# Altium schematic symbol library vga.SchLib: 197 symbols (part 3 of 3)

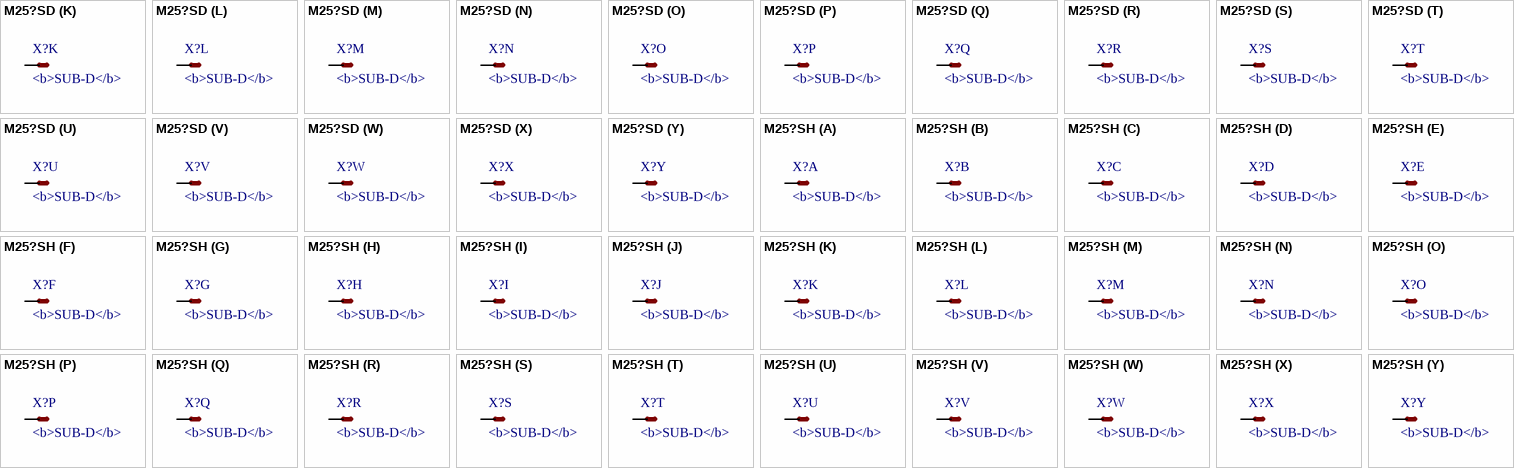
[diagram p46: symbols M25?SD to M25?SH]

## M25?SD
designator X?, comment <b>SUB-D</b>
OC_FARNELL: unknown; OC_NEWARK: unknown
footprint M25D
part A pins: 1 M
part B pins: 2 M
part C pins: 3 M
part D pins: 4 M
part E pins: 5 M
part F pins: 6 M
part G pins: 7 M
part H pins: 8 M
part I pins: 9 M
part J pins: 10 M
part K pins: 11 M
part L pins: 12 M
part M pins: 13 M
part N pins: 14 M
part O pins: 15 M
part P pins: 16 M
part Q pins: 17 M
part R pins: 18 M
part S pins: 19 M
part T pins: 20 M
part U pins: 21 M
part V pins: 22 M
part W pins: 23 M
part X pins: 24 M
part Y pins: 25 M

## M25?SH
designator X?, comment <b>SUB-D</b>
OC_FARNELL: unknown; OC_NEWARK: unknown
footprint M25H
part A pins: 1 M
part B pins: 2 M
part C pins: 3 M
part D pins: 4 M
part E pins: 5 M
part F pins: 6 M
part G pins: 7 M
part H pins: 8 M
part I pins: 9 M
part J pins: 10 M
part K pins: 11 M
part L pins: 12 M
part M pins: 13 M
part N pins: 14 M
part O pins: 15 M
part P pins: 16 M
part Q pins: 17 M
part R pins: 18 M
part S pins: 19 M
part T pins: 20 M
part U pins: 21 M
part V pins: 22 M
part W pins: 23 M
part X pins: 24 M
part Y pins: 25 M

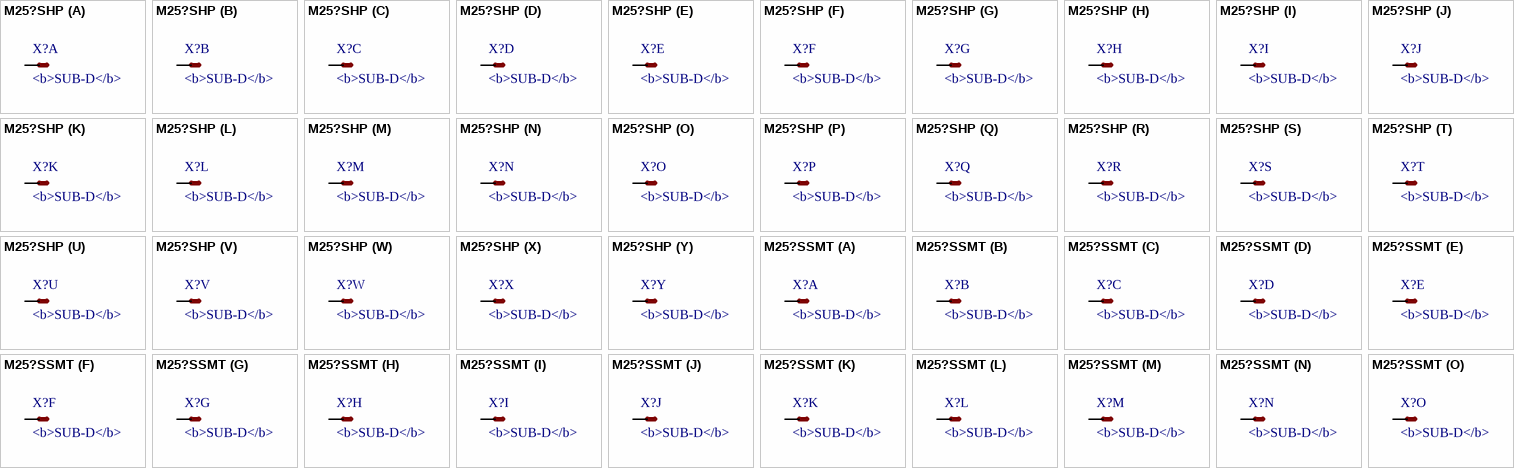
[diagram p47: symbols M25?SHP to M25?SSMT]

## M25?SHP
designator X?, comment <b>SUB-D</b>
OC_FARNELL: unknown; OC_NEWARK: unknown
footprint M25HP
part A pins: 1 M
part B pins: 2 M
part C pins: 3 M
part D pins: 4 M
part E pins: 5 M
part F pins: 6 M
part G pins: 7 M
part H pins: 8 M
part I pins: 9 M
part J pins: 10 M
part K pins: 11 M
part L pins: 12 M
part M pins: 13 M
part N pins: 14 M
part O pins: 15 M
part P pins: 16 M
part Q pins: 17 M
part R pins: 18 M
part S pins: 19 M
part T pins: 20 M
part U pins: 21 M
part V pins: 22 M
part W pins: 23 M
part X pins: 24 M
part Y pins: 25 M

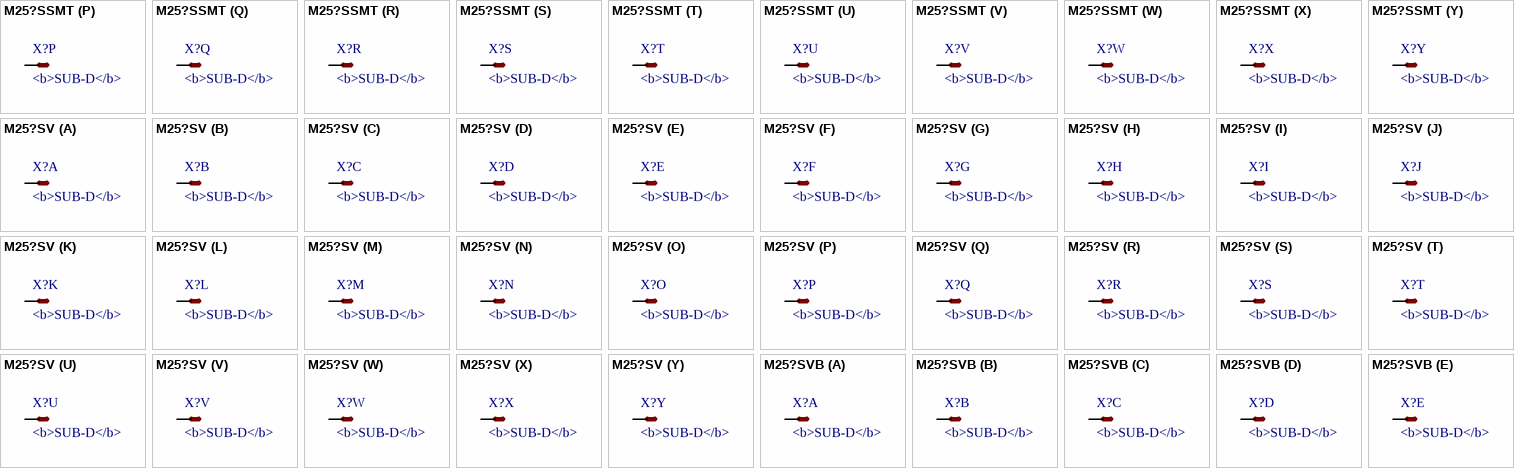
[diagram p48: symbols M25?SSMT to M25?SVB]

## M25?SSMT
designator X?, comment <b>SUB-D</b>
footprint M25SMT
part A pins: 1 M
part B pins: 2 M
part C pins: 3 M
part D pins: 4 M
part E pins: 5 M
part F pins: 6 M
part G pins: 7 M
part H pins: 8 M
part I pins: 9 M
part J pins: 10 M
part K pins: 11 M
part L pins: 12 M
part M pins: 13 M
part N pins: 14 M
part O pins: 15 M
part P pins: 16 M
part Q pins: 17 M
part R pins: 18 M
part S pins: 19 M
part T pins: 20 M
part U pins: 21 M
part V pins: 22 M
part W pins: 23 M
part X pins: 24 M
part Y pins: 25 M

## M25?SV
designator X?, comment <b>SUB-D</b>
OC_FARNELL: unknown; OC_NEWARK: unknown
footprint M25V
part A pins: 1 M
part B pins: 2 M
part C pins: 3 M
part D pins: 4 M
part E pins: 5 M
part F pins: 6 M
part G pins: 7 M
part H pins: 8 M
part I pins: 9 M
part J pins: 10 M
part K pins: 11 M
part L pins: 12 M
part M pins: 13 M
part N pins: 14 M
part O pins: 15 M
part P pins: 16 M
part Q pins: 17 M
part R pins: 18 M
part S pins: 19 M
part T pins: 20 M
part U pins: 21 M
part V pins: 22 M
part W pins: 23 M
part X pins: 24 M
part Y pins: 25 M

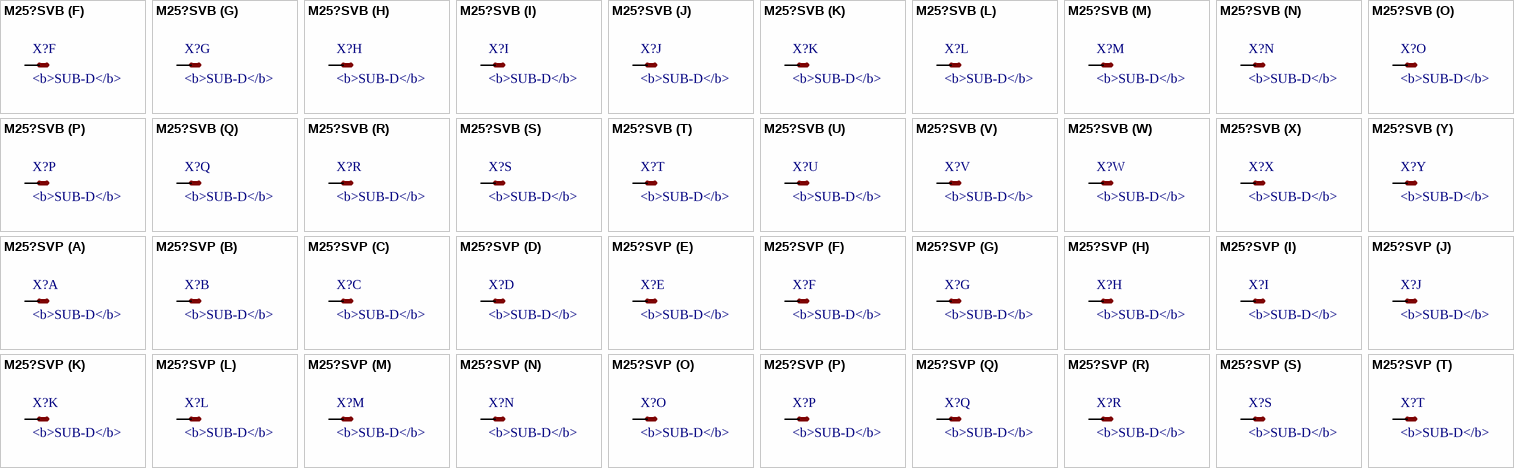
[diagram p49: symbols M25?SVB to M25?SVP]

## M25?SVB
designator X?, comment <b>SUB-D</b>
OC_FARNELL: unknown; OC_NEWARK: unknown
footprint M25VB
part A pins: 1 M
part B pins: 2 M
part C pins: 3 M
part D pins: 4 M
part E pins: 5 M
part F pins: 6 M
part G pins: 7 M
part H pins: 8 M
part I pins: 9 M
part J pins: 10 M
part K pins: 11 M
part L pins: 12 M
part M pins: 13 M
part N pins: 14 M
part O pins: 15 M
part P pins: 16 M
part Q pins: 17 M
part R pins: 18 M
part S pins: 19 M
part T pins: 20 M
part U pins: 21 M
part V pins: 22 M
part W pins: 23 M
part X pins: 24 M
part Y pins: 25 M

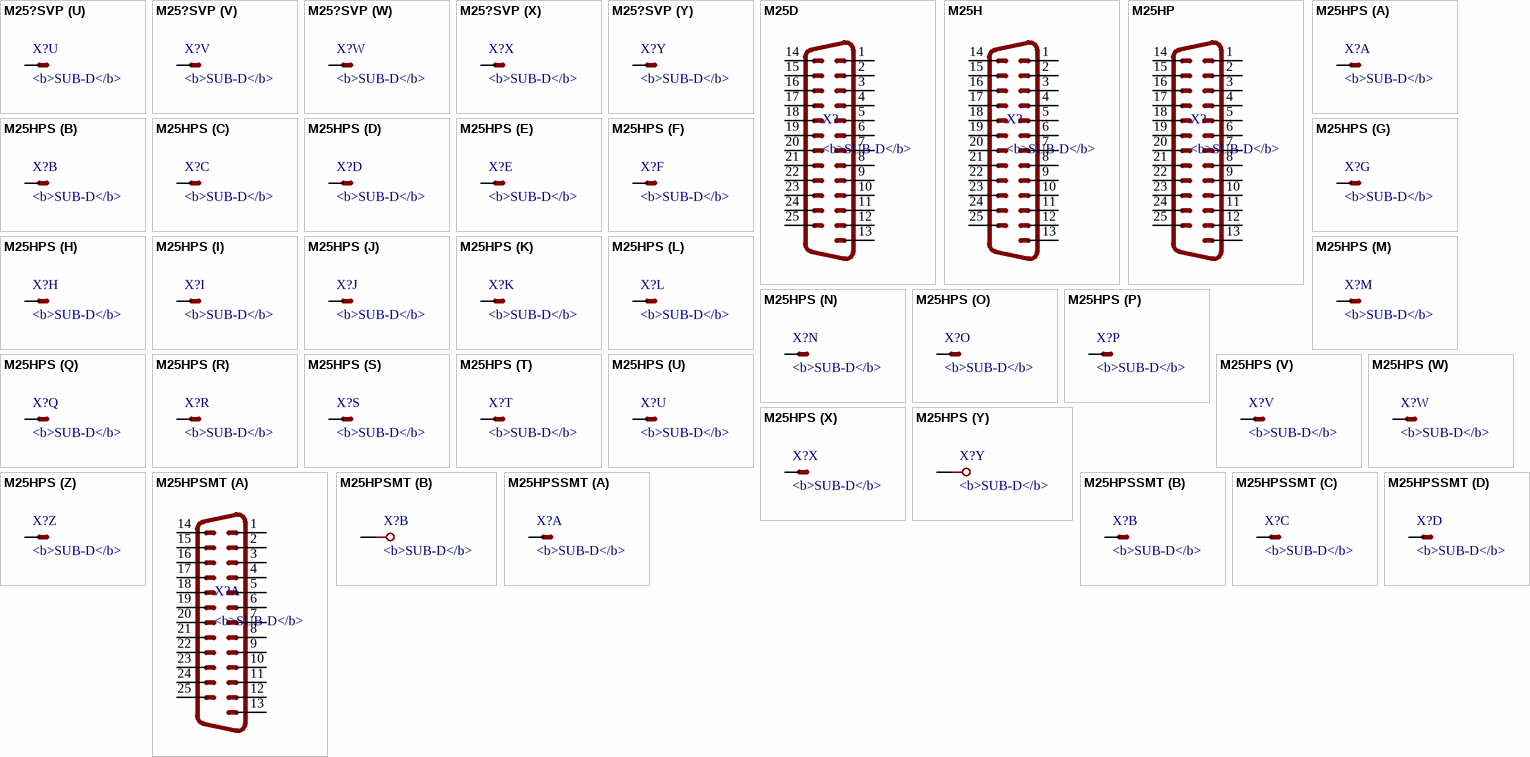
[diagram p50: symbols M25?SVP to M25HPSSMT]

## M25?SVP
designator X?, comment <b>SUB-D</b>
OC_FARNELL: unknown; OC_NEWARK: unknown
footprint M25VP
part A pins: 1 M
part B pins: 2 M
part C pins: 3 M
part D pins: 4 M
part E pins: 5 M
part F pins: 6 M
part G pins: 7 M
part H pins: 8 M
part I pins: 9 M
part J pins: 10 M
part K pins: 11 M
part L pins: 12 M
part M pins: 13 M
part N pins: 14 M
part O pins: 15 M
part P pins: 16 M
part Q pins: 17 M
part R pins: 18 M
part S pins: 19 M
part T pins: 20 M
part U pins: 21 M
part V pins: 22 M
part W pins: 23 M
part X pins: 24 M
part Y pins: 25 M

## M25D
designator X?, comment <b>SUB-D</b>
OC_FARNELL: unknown; OC_NEWARK: unknown
footprint M25D
pins: 1, 2, 3, 4, 5, 6, 7, 8, 9, 10, 11, 12, 13, 14, 15, 16, 17, 18, 19, 20, 21, 22, 23, 24, 25

## M25H
designator X?, comment <b>SUB-D</b>
OC_FARNELL: unknown; OC_NEWARK: unknown
footprint M25H
pins: 1, 2, 3, 4, 5, 6, 7, 8, 9, 10, 11, 12, 13, 14, 15, 16, 17, 18, 19, 20, 21, 22, 23, 24, 25

## M25HP
designator X?, comment <b>SUB-D</b>
OC_FARNELL: unknown; OC_NEWARK: unknown
footprint M25HP
pins: 1, 2, 3, 4, 5, 6, 7, 8, 9, 10, 11, 12, 13, 14, 15, 16, 17, 18, 19, 20, 21, 22, 23, 24, 25

## M25HPS
designator X?, comment <b>SUB-D</b>
OC_FARNELL: unknown; OC_NEWARK: unknown
footprint M25HP
part A pins: 2 M
part B pins: 3 M
part C pins: 4 M
part D pins: 5 M
part E pins: 6 M
part F pins: 7 M
part G pins: 8 M
part H pins: 9 M
part I pins: 10 M
part J pins: 11 M
part K pins: 12 M
part L pins: 13 M
part M pins: 14 M
part N pins: 15 M
part O pins: 16 M
part P pins: 17 M
part Q pins: 18 M
part R pins: 19 M
part S pins: 20 M
part T pins: 21 M
part U pins: 22 M
part V pins: 23 M
part W pins: 24 M
part X pins: 25 M
part Y pins: G1, G2
part Z pins: 1 M

## M25HPSMT
designator X?, comment <b>SUB-D</b>
footprint M25SMT
part A pins: 1, 2, 3, 4, 5, 6, 7, 8, 9, 10, 11, 12, 13, 14, 15, 16, 17, 18, 19, 20, 21, 22, 23, 24, 25
part B pins: S@1 G1, S@2 G2

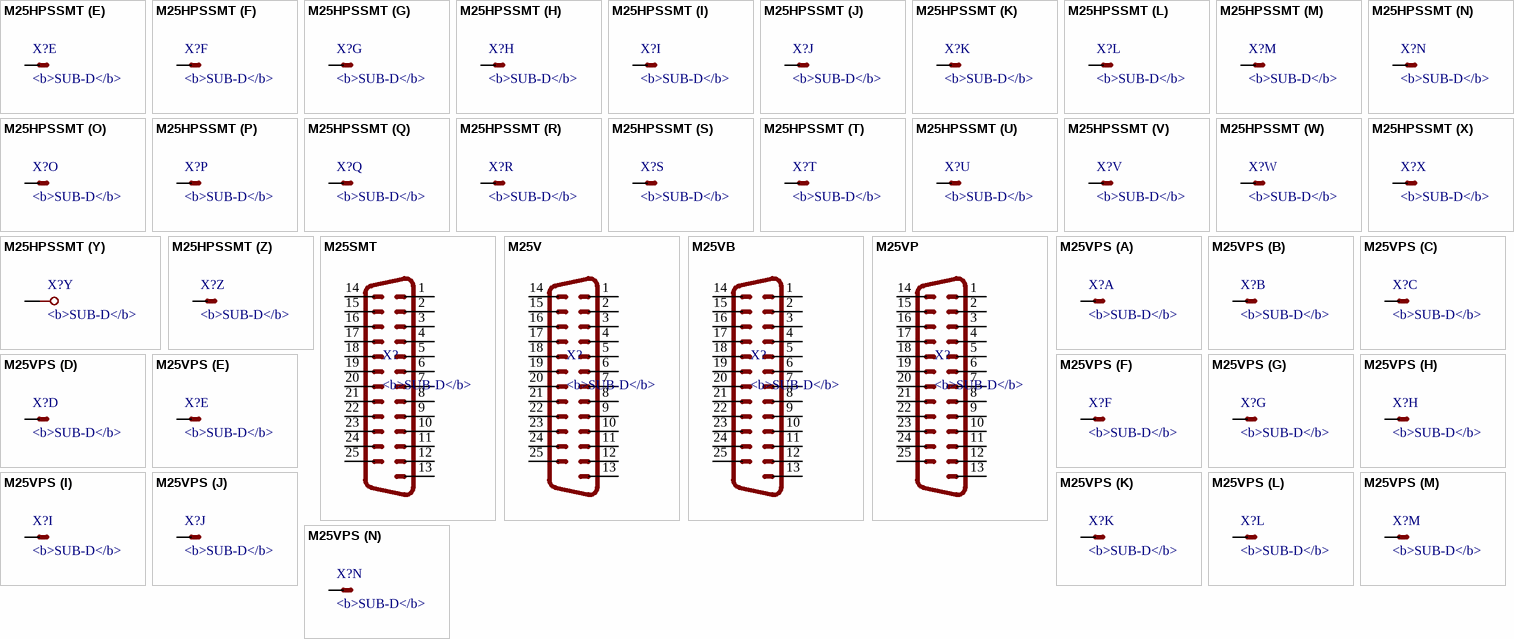
[diagram p51: symbols M25HPSSMT to M25VPS]

## M25HPSSMT
designator X?, comment <b>SUB-D</b>
footprint M25SMT
part A pins: 2 M
part B pins: 3 M
part C pins: 4 M
part D pins: 5 M
part E pins: 6 M
part F pins: 7 M
part G pins: 8 M
part H pins: 9 M
part I pins: 10 M
part J pins: 11 M
part K pins: 12 M
part L pins: 13 M
part M pins: 14 M
part N pins: 15 M
part O pins: 16 M
part P pins: 17 M
part Q pins: 18 M
part R pins: 19 M
part S pins: 20 M
part T pins: 21 M
part U pins: 22 M
part V pins: 23 M
part W pins: 24 M
part X pins: 25 M
part Y pins: S@1 G1, S@2 G2
part Z pins: 1 M

## M25SMT
designator X?, comment <b>SUB-D</b>
footprint M25SMT
pins: 1, 2, 3, 4, 5, 6, 7, 8, 9, 10, 11, 12, 13, 14, 15, 16, 17, 18, 19, 20, 21, 22, 23, 24, 25

## M25V
designator X?, comment <b>SUB-D</b>
OC_FARNELL: unknown; OC_NEWARK: unknown
footprint M25V
pins: 1, 2, 3, 4, 5, 6, 7, 8, 9, 10, 11, 12, 13, 14, 15, 16, 17, 18, 19, 20, 21, 22, 23, 24, 25

## M25VB
designator X?, comment <b>SUB-D</b>
OC_FARNELL: unknown; OC_NEWARK: unknown
footprint M25VB
pins: 1, 2, 3, 4, 5, 6, 7, 8, 9, 10, 11, 12, 13, 14, 15, 16, 17, 18, 19, 20, 21, 22, 23, 24, 25

## M25VP
designator X?, comment <b>SUB-D</b>
OC_FARNELL: unknown; OC_NEWARK: unknown
footprint M25VP
pins: 1, 2, 3, 4, 5, 6, 7, 8, 9, 10, 11, 12, 13, 14, 15, 16, 17, 18, 19, 20, 21, 22, 23, 24, 25

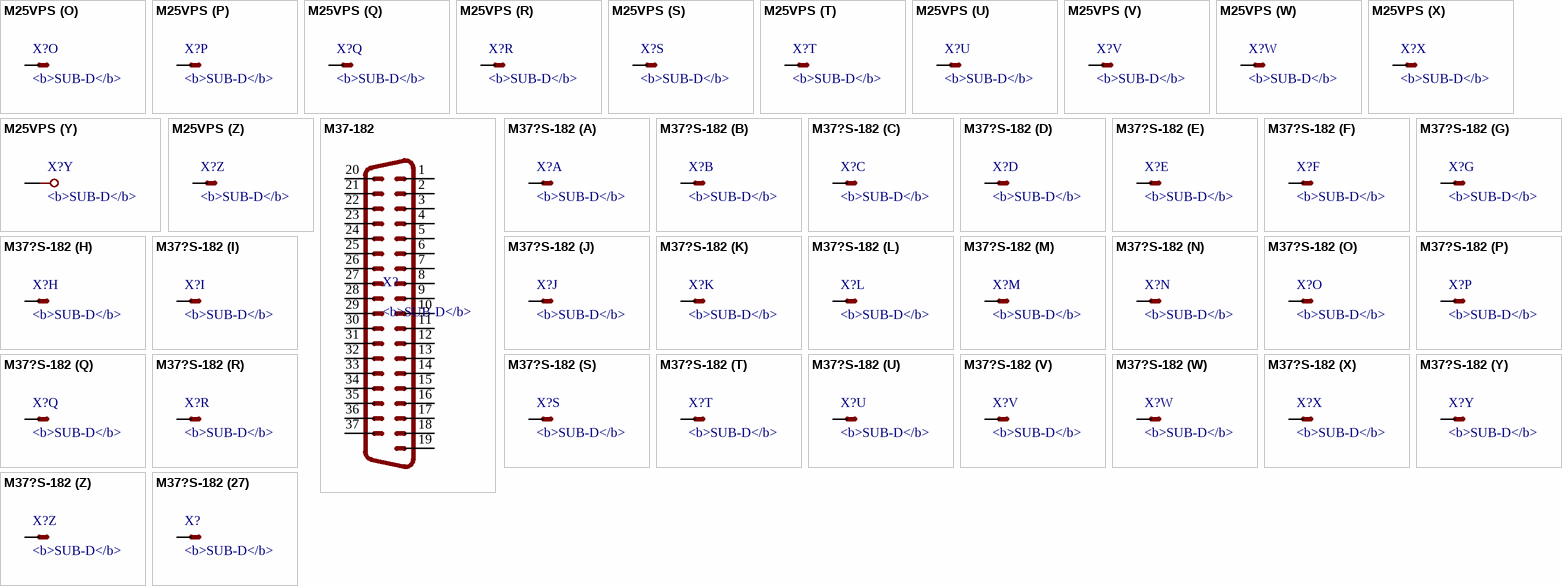
[diagram p52: symbols M25VPS to M37?S-182]

## M25VPS
designator X?, comment <b>SUB-D</b>
OC_FARNELL: unknown; OC_NEWARK: unknown
footprint M25VP
part A pins: 2 M
part B pins: 3 M
part C pins: 4 M
part D pins: 5 M
part E pins: 6 M
part F pins: 7 M
part G pins: 8 M
part H pins: 9 M
part I pins: 10 M
part J pins: 11 M
part K pins: 12 M
part L pins: 13 M
part M pins: 14 M
part N pins: 15 M
part O pins: 16 M
part P pins: 17 M
part Q pins: 18 M
part R pins: 19 M
part S pins: 20 M
part T pins: 21 M
part U pins: 22 M
part V pins: 23 M
part W pins: 24 M
part X pins: 25 M
part Y pins: G1, G2
part Z pins: 1 M

## M37-182
designator X?, comment <b>SUB-D</b>
OC_FARNELL: unknown; OC_NEWARK: unknown
footprint 182-037-MALE
pins: 1, 2, 3, 4, 5, 6, 7, 8, 9, 10, 11, 12, 13, 14, 15, 16, 17, 18, 19, 20, 21, 22, 23, 24, 25, 26, 27, 28, 29, 30, 31, 32, 33, 34, 35, 36, 37

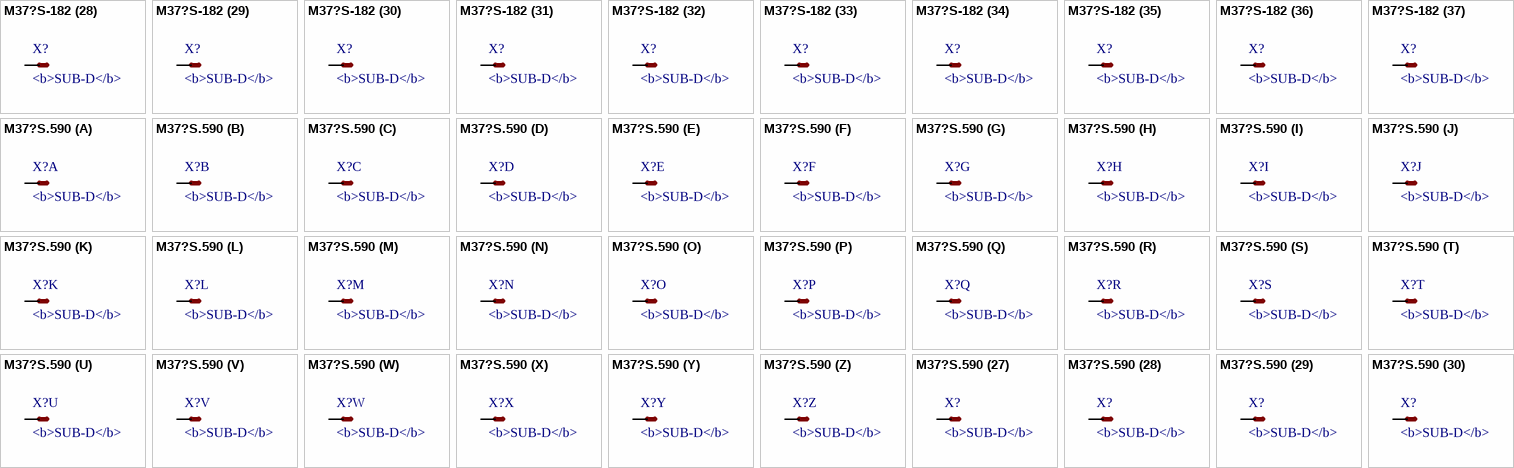
[diagram p53: symbols M37?S-182 to M37?S.590]

## M37?S-182
designator X?, comment <b>SUB-D</b>
OC_FARNELL: unknown; OC_NEWARK: unknown
footprint 182-037-MALE
part A pins: 1 M
part B pins: 2 M
part C pins: 3 M
part D pins: 4 M
part E pins: 5 M
part F pins: 6 M
part G pins: 7 M
part H pins: 8 M
part I pins: 9 M
part J pins: 10 M
part K pins: 11 M
part L pins: 12 M
part M pins: 13 M
part N pins: 14 M
part O pins: 15 M
part P pins: 16 M
part Q pins: 17 M
part R pins: 18 M
part S pins: 19 M
part T pins: 20 M
part U pins: 21 M
part V pins: 22 M
part W pins: 23 M
part X pins: 24 M
part Y pins: 25 M
part Z pins: 26 M
part 27 pins: 27 M
part 28 pins: 28 M
part 29 pins: 29 M
part 30 pins: 30 M
part 31 pins: 31 M
part 32 pins: 32 M
part 33 pins: 33 M
part 34 pins: 34 M
part 35 pins: 35 M
part 36 pins: 36 M
part 37 pins: 37 M

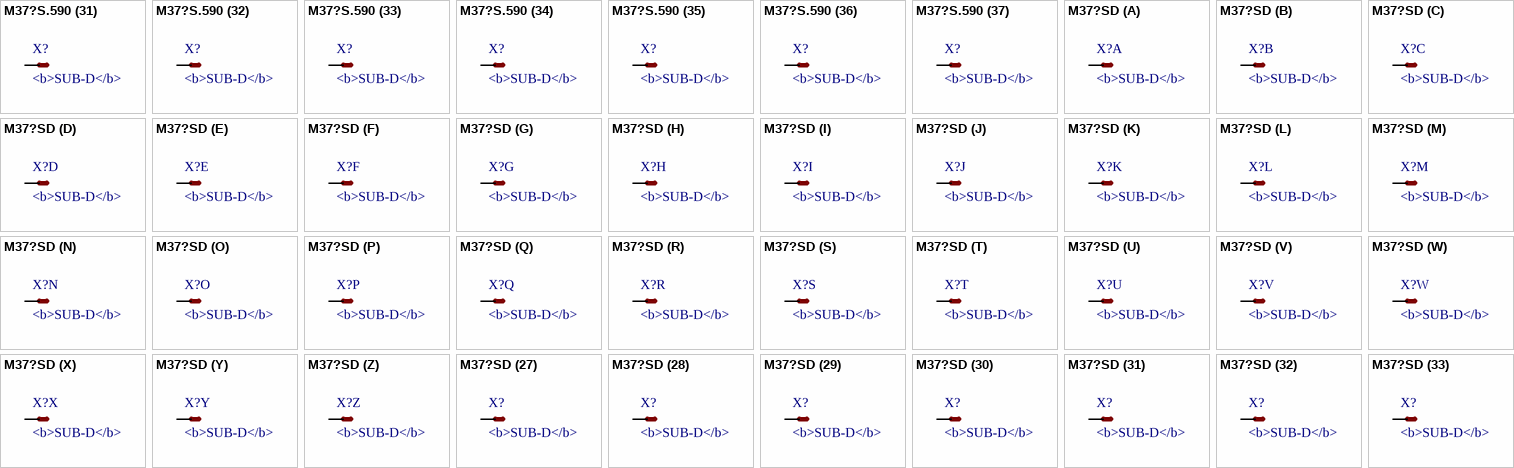
[diagram p54: symbols M37?S.590 to M37?SD]

## M37?S.590
designator X?, comment <b>SUB-D</b>
OC_FARNELL: unknown; OC_NEWARK: unknown
footprint 177-037-MALE
part A pins: 1 M
part B pins: 2 M
part C pins: 3 M
part D pins: 4 M
part E pins: 5 M
part F pins: 6 M
part G pins: 7 M
part H pins: 8 M
part I pins: 9 M
part J pins: 10 M
part K pins: 11 M
part L pins: 12 M
part M pins: 13 M
part N pins: 14 M
part O pins: 15 M
part P pins: 16 M
part Q pins: 17 M
part R pins: 18 M
part S pins: 19 M
part T pins: 20 M
part U pins: 21 M
part V pins: 22 M
part W pins: 23 M
part X pins: 24 M
part Y pins: 25 M
part Z pins: 26 M
part 27 pins: 27 M
part 28 pins: 28 M
part 29 pins: 29 M
part 30 pins: 30 M
part 31 pins: 31 M
part 32 pins: 32 M
part 33 pins: 33 M
part 34 pins: 34 M
part 35 pins: 35 M
part 36 pins: 36 M
part 37 pins: 37 M

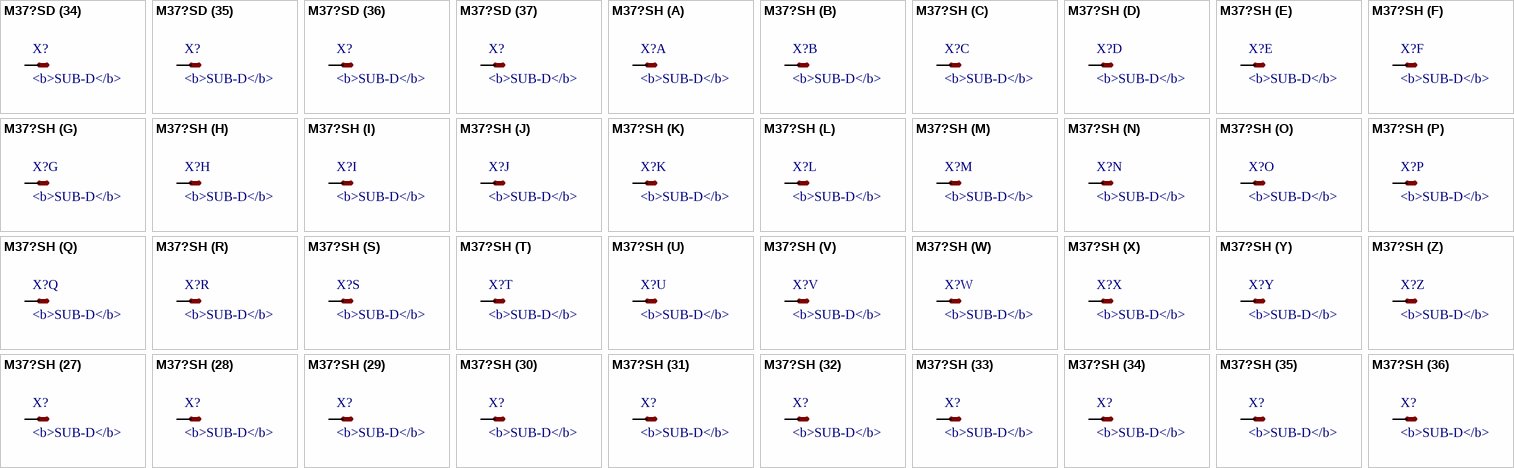
[diagram p55: symbols M37?SD to M37?SH]

## M37?SD
designator X?, comment <b>SUB-D</b>
OC_FARNELL: unknown; OC_NEWARK: unknown
footprint M37D
part A pins: 1 M
part B pins: 2 M
part C pins: 3 M
part D pins: 4 M
part E pins: 5 M
part F pins: 6 M
part G pins: 7 M
part H pins: 8 M
part I pins: 9 M
part J pins: 10 M
part K pins: 11 M
part L pins: 12 M
part M pins: 13 M
part N pins: 14 M
part O pins: 15 M
part P pins: 16 M
part Q pins: 17 M
part R pins: 18 M
part S pins: 19 M
part T pins: 20 M
part U pins: 21 M
part V pins: 22 M
part W pins: 23 M
part X pins: 24 M
part Y pins: 25 M
part Z pins: 26 M
part 27 pins: 27 M
part 28 pins: 28 M
part 29 pins: 29 M
part 30 pins: 30 M
part 31 pins: 31 M
part 32 pins: 32 M
part 33 pins: 33 M
part 34 pins: 34 M
part 35 pins: 35 M
part 36 pins: 36 M
part 37 pins: 37 M

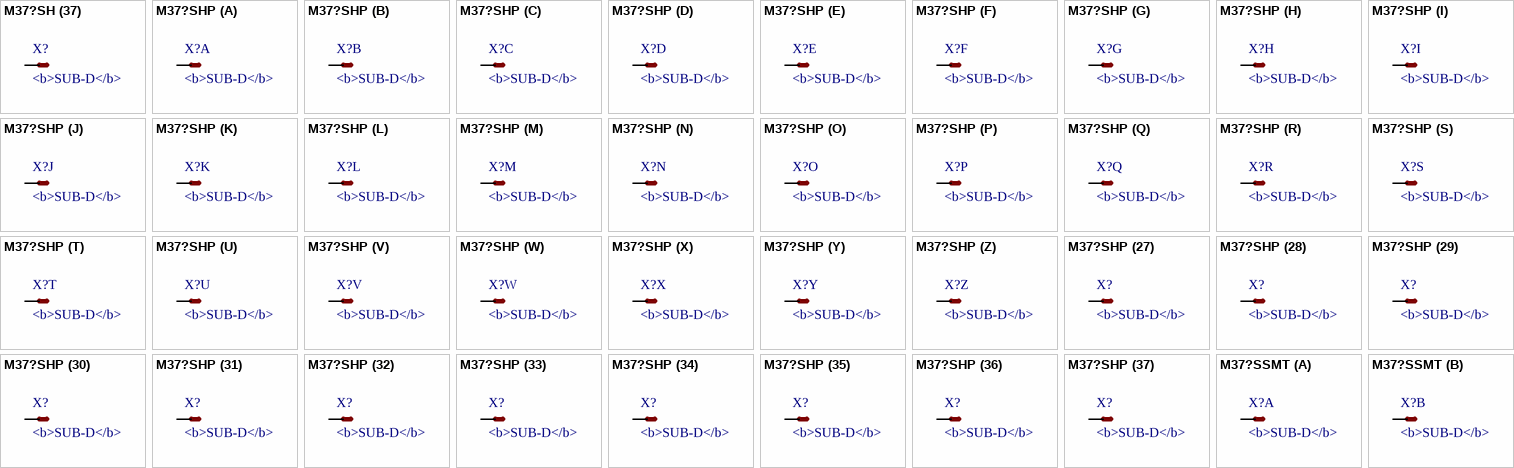
[diagram p56: symbols M37?SH to M37?SSMT]

## M37?SH
designator X?, comment <b>SUB-D</b>
OC_FARNELL: unknown; OC_NEWARK: unknown
footprint M37H
part A pins: 1 M
part B pins: 2 M
part C pins: 3 M
part D pins: 4 M
part E pins: 5 M
part F pins: 6 M
part G pins: 7 M
part H pins: 8 M
part I pins: 9 M
part J pins: 10 M
part K pins: 11 M
part L pins: 12 M
part M pins: 13 M
part N pins: 14 M
part O pins: 15 M
part P pins: 16 M
part Q pins: 17 M
part R pins: 18 M
part S pins: 19 M
part T pins: 20 M
part U pins: 21 M
part V pins: 22 M
part W pins: 23 M
part X pins: 24 M
part Y pins: 25 M
part Z pins: 26 M
part 27 pins: 27 M
part 28 pins: 28 M
part 29 pins: 29 M
part 30 pins: 30 M
part 31 pins: 31 M
part 32 pins: 32 M
part 33 pins: 33 M
part 34 pins: 34 M
part 35 pins: 35 M
part 36 pins: 36 M
part 37 pins: 37 M

## M37?SHP
designator X?, comment <b>SUB-D</b>
OC_FARNELL: unknown; OC_NEWARK: unknown
footprint M37HP
part A pins: 1 M
part B pins: 2 M
part C pins: 3 M
part D pins: 4 M
part E pins: 5 M
part F pins: 6 M
part G pins: 7 M
part H pins: 8 M
part I pins: 9 M
part J pins: 10 M
part K pins: 11 M
part L pins: 12 M
part M pins: 13 M
part N pins: 14 M
part O pins: 15 M
part P pins: 16 M
part Q pins: 17 M
part R pins: 18 M
part S pins: 19 M
part T pins: 20 M
part U pins: 21 M
part V pins: 22 M
part W pins: 23 M
part X pins: 24 M
part Y pins: 25 M
part Z pins: 26 M
part 27 pins: 27 M
part 28 pins: 28 M
part 29 pins: 29 M
part 30 pins: 30 M
part 31 pins: 31 M
part 32 pins: 32 M
part 33 pins: 33 M
part 34 pins: 34 M
part 35 pins: 35 M
part 36 pins: 36 M
part 37 pins: 37 M

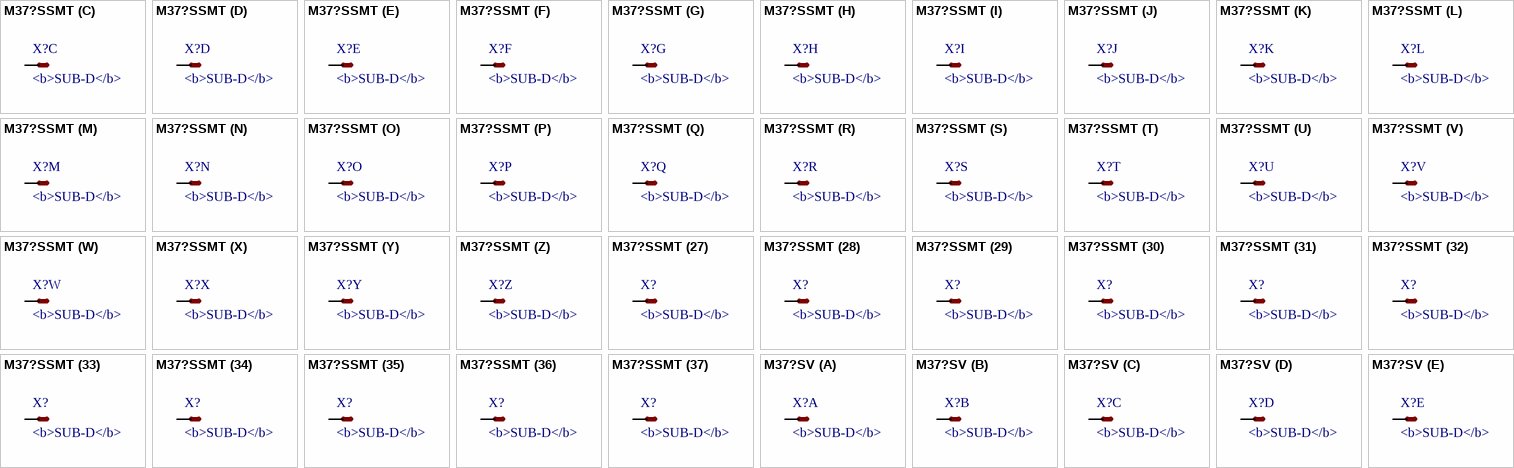
[diagram p57: symbols M37?SSMT to M37?SV]

## M37?SSMT
designator X?, comment <b>SUB-D</b>
footprint M37SMT
part A pins: 1 M
part B pins: 2 M
part C pins: 3 M
part D pins: 4 M
part E pins: 5 M
part F pins: 6 M
part G pins: 7 M
part H pins: 8 M
part I pins: 9 M
part J pins: 10 M
part K pins: 11 M
part L pins: 12 M
part M pins: 13 M
part N pins: 14 M
part O pins: 15 M
part P pins: 16 M
part Q pins: 17 M
part R pins: 18 M
part S pins: 19 M
part T pins: 20 M
part U pins: 21 M
part V pins: 22 M
part W pins: 23 M
part X pins: 24 M
part Y pins: 25 M
part Z pins: 26 M
part 27 pins: 27 M
part 28 pins: 28 M
part 29 pins: 29 M
part 30 pins: 30 M
part 31 pins: 31 M
part 32 pins: 32 M
part 33 pins: 33 M
part 34 pins: 34 M
part 35 pins: 35 M
part 36 pins: 36 M
part 37 pins: 37 M

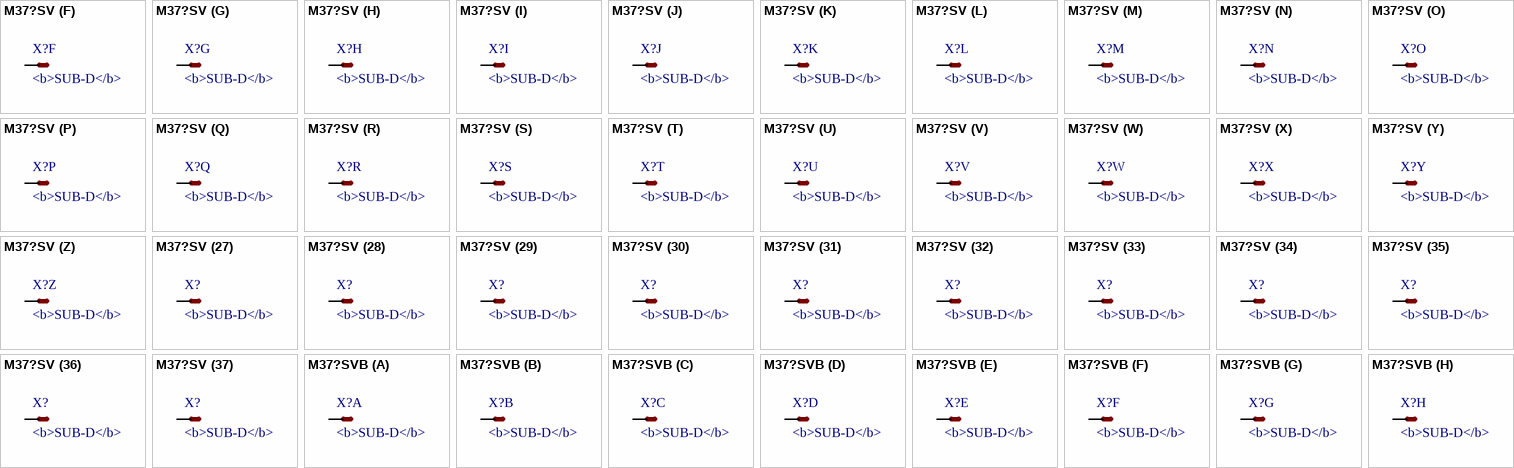
[diagram p58: symbols M37?SV to M37?SVB]

## M37?SV
designator X?, comment <b>SUB-D</b>
OC_FARNELL: unknown; OC_NEWARK: unknown
footprint M37V
part A pins: 1 M
part B pins: 2 M
part C pins: 3 M
part D pins: 4 M
part E pins: 5 M
part F pins: 6 M
part G pins: 7 M
part H pins: 8 M
part I pins: 9 M
part J pins: 10 M
part K pins: 11 M
part L pins: 12 M
part M pins: 13 M
part N pins: 14 M
part O pins: 15 M
part P pins: 16 M
part Q pins: 17 M
part R pins: 18 M
part S pins: 19 M
part T pins: 20 M
part U pins: 21 M
part V pins: 22 M
part W pins: 23 M
part X pins: 24 M
part Y pins: 25 M
part Z pins: 26 M
part 27 pins: 27 M
part 28 pins: 28 M
part 29 pins: 29 M
part 30 pins: 30 M
part 31 pins: 31 M
part 32 pins: 32 M
part 33 pins: 33 M
part 34 pins: 34 M
part 35 pins: 35 M
part 36 pins: 36 M
part 37 pins: 37 M

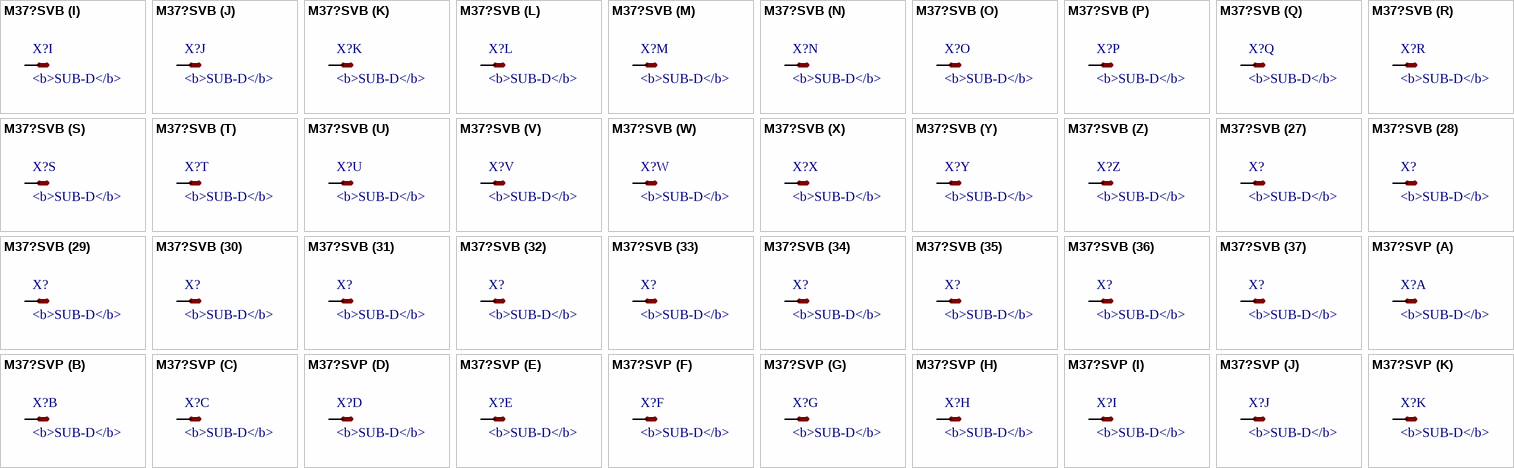
[diagram p59: symbols M37?SVB to M37?SVP]

## M37?SVB
designator X?, comment <b>SUB-D</b>
OC_FARNELL: unknown; OC_NEWARK: unknown
footprint M37VB
part A pins: 1 M
part B pins: 2 M
part C pins: 3 M
part D pins: 4 M
part E pins: 5 M
part F pins: 6 M
part G pins: 7 M
part H pins: 8 M
part I pins: 9 M
part J pins: 10 M
part K pins: 11 M
part L pins: 12 M
part M pins: 13 M
part N pins: 14 M
part O pins: 15 M
part P pins: 16 M
part Q pins: 17 M
part R pins: 18 M
part S pins: 19 M
part T pins: 20 M
part U pins: 21 M
part V pins: 22 M
part W pins: 23 M
part X pins: 24 M
part Y pins: 25 M
part Z pins: 26 M
part 27 pins: 27 M
part 28 pins: 28 M
part 29 pins: 29 M
part 30 pins: 30 M
part 31 pins: 31 M
part 32 pins: 32 M
part 33 pins: 33 M
part 34 pins: 34 M
part 35 pins: 35 M
part 36 pins: 36 M
part 37 pins: 37 M

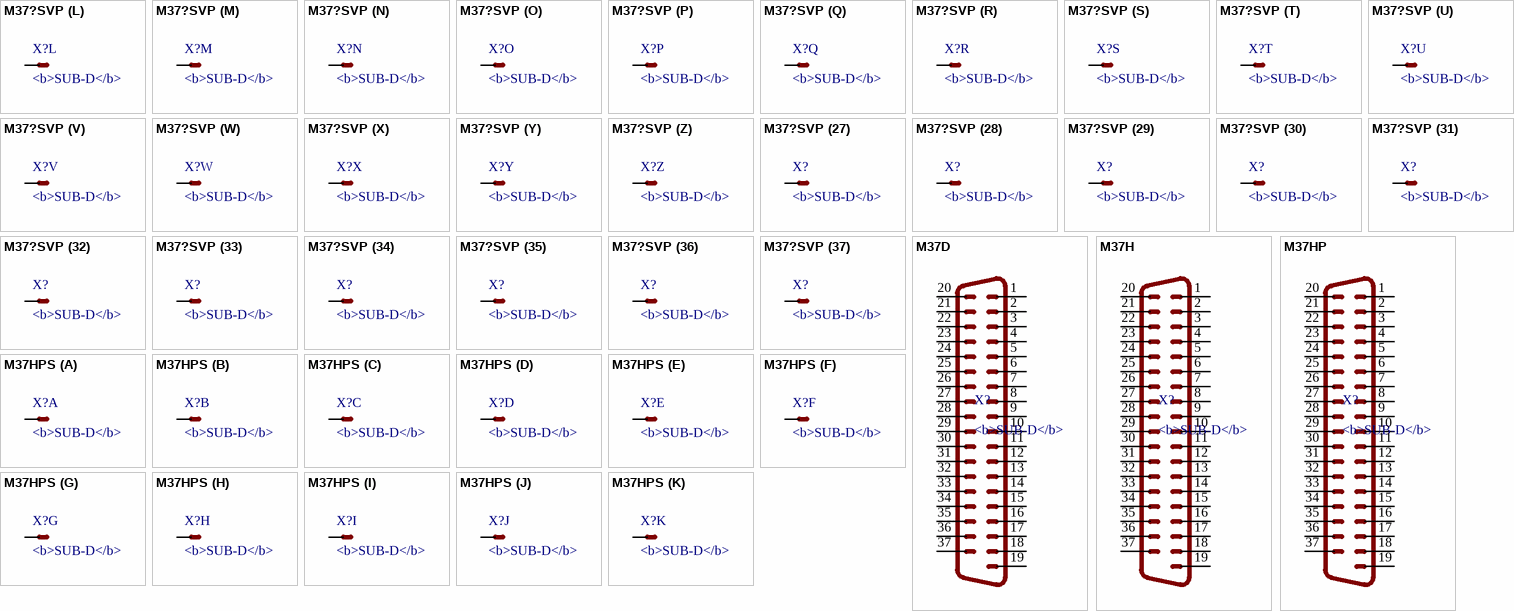
[diagram p60: symbols M37?SVP to M37HPS]

## M37?SVP
designator X?, comment <b>SUB-D</b>
OC_FARNELL: unknown; OC_NEWARK: unknown
footprint M37VP
part A pins: 1 M
part B pins: 2 M
part C pins: 3 M
part D pins: 4 M
part E pins: 5 M
part F pins: 6 M
part G pins: 7 M
part H pins: 8 M
part I pins: 9 M
part J pins: 10 M
part K pins: 11 M
part L pins: 12 M
part M pins: 13 M
part N pins: 14 M
part O pins: 15 M
part P pins: 16 M
part Q pins: 17 M
part R pins: 18 M
part S pins: 19 M
part T pins: 20 M
part U pins: 21 M
part V pins: 22 M
part W pins: 23 M
part X pins: 24 M
part Y pins: 25 M
part Z pins: 26 M
part 27 pins: 27 M
part 28 pins: 28 M
part 29 pins: 29 M
part 30 pins: 30 M
part 31 pins: 31 M
part 32 pins: 32 M
part 33 pins: 33 M
part 34 pins: 34 M
part 35 pins: 35 M
part 36 pins: 36 M
part 37 pins: 37 M

## M37D
designator X?, comment <b>SUB-D</b>
OC_FARNELL: unknown; OC_NEWARK: unknown
footprint M37D
pins: 1, 2, 3, 4, 5, 6, 7, 8, 9, 10, 11, 12, 13, 14, 15, 16, 17, 18, 19, 20, 21, 22, 23, 24, 25, 26, 27, 28, 29, 30, 31, 32, 33, 34, 35, 36, 37

## M37H
designator X?, comment <b>SUB-D</b>
OC_FARNELL: unknown; OC_NEWARK: unknown
footprint M37H
pins: 1, 2, 3, 4, 5, 6, 7, 8, 9, 10, 11, 12, 13, 14, 15, 16, 17, 18, 19, 20, 21, 22, 23, 24, 25, 26, 27, 28, 29, 30, 31, 32, 33, 34, 35, 36, 37

## M37HP
designator X?, comment <b>SUB-D</b>
OC_FARNELL: unknown; OC_NEWARK: unknown
footprint M37HP
pins: 1, 2, 3, 4, 5, 6, 7, 8, 9, 10, 11, 12, 13, 14, 15, 16, 17, 18, 19, 20, 21, 22, 23, 24, 25, 26, 27, 28, 29, 30, 31, 32, 33, 34, 35, 36, 37

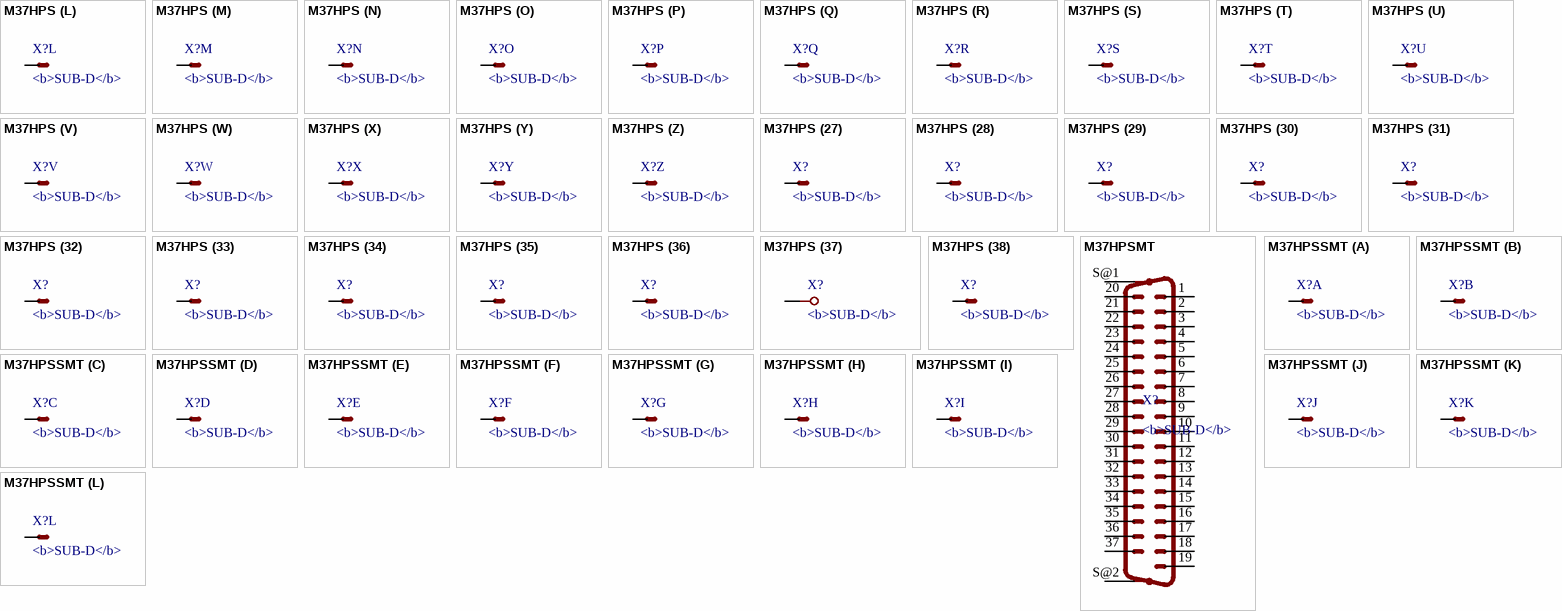
[diagram p61: symbols M37HPS to M37HPSSMT]

## M37HPS
designator X?, comment <b>SUB-D</b>
OC_FARNELL: unknown; OC_NEWARK: unknown
footprint M37HP
part A pins: 2 M
part B pins: 3 M
part C pins: 4 M
part D pins: 5 M
part E pins: 6 M
part F pins: 7 M
part G pins: 8 M
part H pins: 9 M
part I pins: 10 M
part J pins: 11 M
part K pins: 12 M
part L pins: 13 M
part M pins: 14 M
part N pins: 15 M
part O pins: 16 M
part P pins: 17 M
part Q pins: 18 M
part R pins: 19 M
part S pins: 20 M
part T pins: 21 M
part U pins: 22 M
part V pins: 23 M
part W pins: 24 M
part X pins: 25 M
part Y pins: 26 M
part Z pins: 27 M
part 27 pins: 28 M
part 28 pins: 29 M
part 29 pins: 30 M
part 30 pins: 31 M
part 31 pins: 32 M
part 32 pins: 33 M
part 33 pins: 34 M
part 34 pins: 35 M
part 35 pins: 36 M
part 36 pins: 37 M
part 37 pins: G1, G2
part 38 pins: 1 M

## M37HPSMT
designator X?, comment <b>SUB-D</b>
footprint M37SMT
pins: 1, 2, 3, 4, 5, 6, 7, 8, 9, 10, 11, 12, 13, 14, 15, 16, 17, 18, 19, 20, 21, 22, 23, 24, 25, 26, 27, 28, 29, 30, 31, 32, 33, 34, 35, 36, 37, S@1 G1, S@2 G2

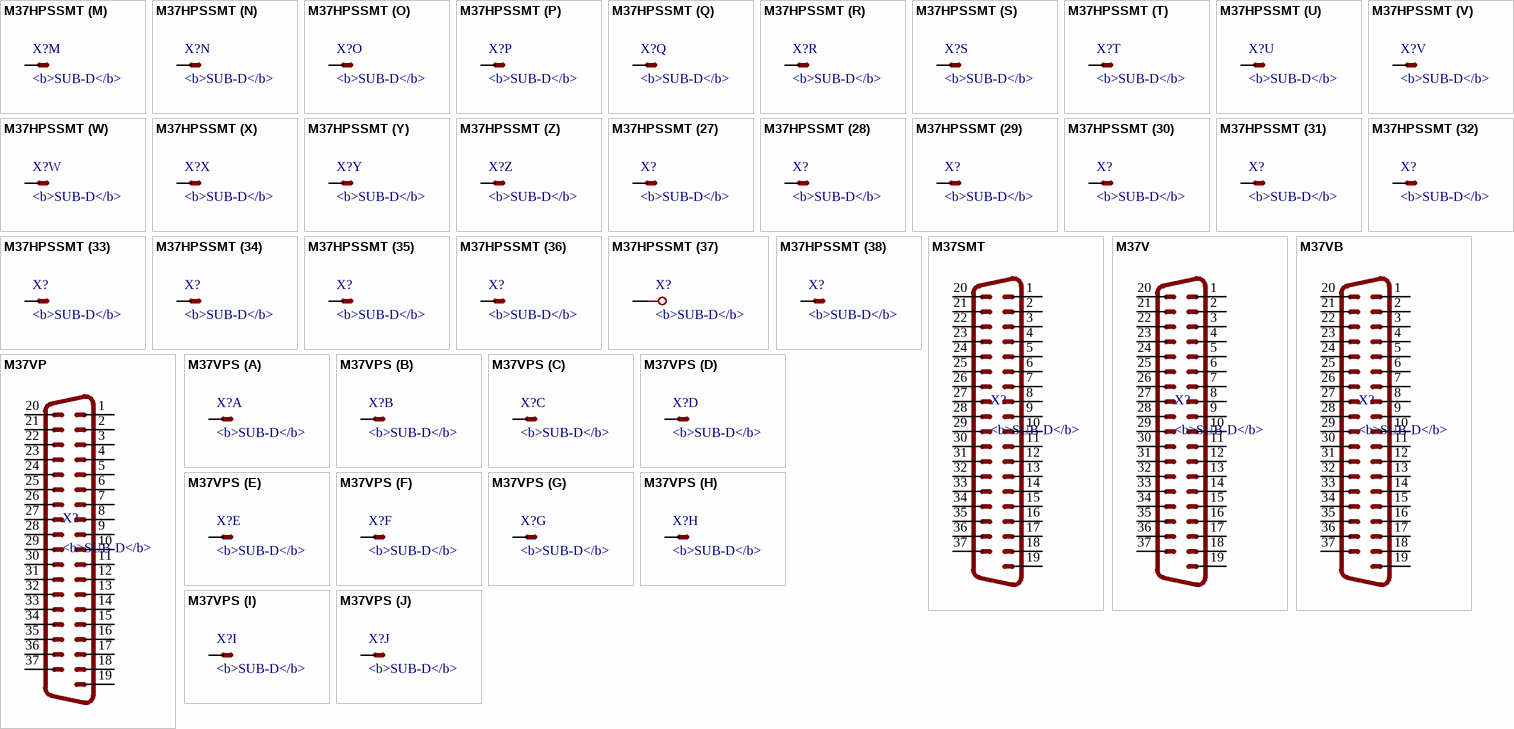
[diagram p62: symbols M37HPSSMT to M37VPS]

## M37HPSSMT
designator X?, comment <b>SUB-D</b>
footprint M37SMT
part A pins: 2 M
part B pins: 3 M
part C pins: 4 M
part D pins: 5 M
part E pins: 6 M
part F pins: 7 M
part G pins: 8 M
part H pins: 9 M
part I pins: 10 M
part J pins: 11 M
part K pins: 12 M
part L pins: 13 M
part M pins: 14 M
part N pins: 15 M
part O pins: 16 M
part P pins: 17 M
part Q pins: 18 M
part R pins: 19 M
part S pins: 20 M
part T pins: 21 M
part U pins: 22 M
part V pins: 23 M
part W pins: 24 M
part X pins: 25 M
part Y pins: 26 M
part Z pins: 27 M
part 27 pins: 28 M
part 28 pins: 29 M
part 29 pins: 30 M
part 30 pins: 31 M
part 31 pins: 32 M
part 32 pins: 33 M
part 33 pins: 34 M
part 34 pins: 35 M
part 35 pins: 36 M
part 36 pins: 37 M
part 37 pins: S@1 G1, S@2 G2
part 38 pins: 1 M

## M37SMT
designator X?, comment <b>SUB-D</b>
footprint M37SMT
pins: 1, 2, 3, 4, 5, 6, 7, 8, 9, 10, 11, 12, 13, 14, 15, 16, 17, 18, 19, 20, 21, 22, 23, 24, 25, 26, 27, 28, 29, 30, 31, 32, 33, 34, 35, 36, 37

## M37V
designator X?, comment <b>SUB-D</b>
OC_FARNELL: unknown; OC_NEWARK: unknown
footprint M37V
pins: 1, 2, 3, 4, 5, 6, 7, 8, 9, 10, 11, 12, 13, 14, 15, 16, 17, 18, 19, 20, 21, 22, 23, 24, 25, 26, 27, 28, 29, 30, 31, 32, 33, 34, 35, 36, 37

## M37VB
designator X?, comment <b>SUB-D</b>
OC_FARNELL: unknown; OC_NEWARK: unknown
footprint M37VB
pins: 1, 2, 3, 4, 5, 6, 7, 8, 9, 10, 11, 12, 13, 14, 15, 16, 17, 18, 19, 20, 21, 22, 23, 24, 25, 26, 27, 28, 29, 30, 31, 32, 33, 34, 35, 36, 37

## M37VP
designator X?, comment <b>SUB-D</b>
OC_FARNELL: unknown; OC_NEWARK: unknown
footprint M37VP
pins: 1, 2, 3, 4, 5, 6, 7, 8, 9, 10, 11, 12, 13, 14, 15, 16, 17, 18, 19, 20, 21, 22, 23, 24, 25, 26, 27, 28, 29, 30, 31, 32, 33, 34, 35, 36, 37

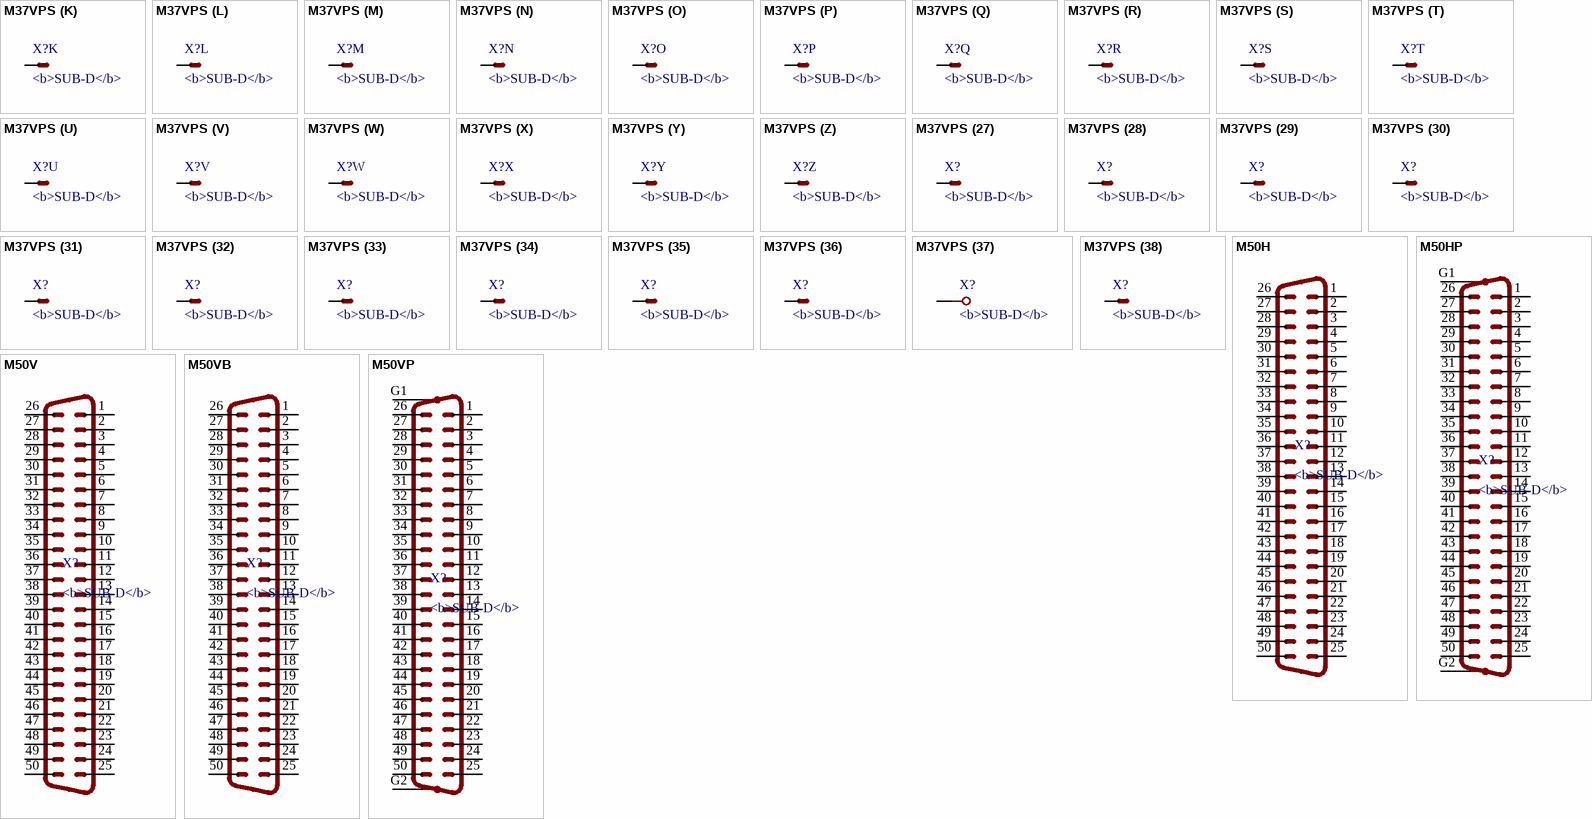
[diagram p63: symbols M37VPS to M50VP]

## M37VPS
designator X?, comment <b>SUB-D</b>
OC_FARNELL: unknown; OC_NEWARK: unknown
footprint M37VP
part A pins: 2 M
part B pins: 3 M
part C pins: 4 M
part D pins: 5 M
part E pins: 6 M
part F pins: 7 M
part G pins: 8 M
part H pins: 9 M
part I pins: 10 M
part J pins: 11 M
part K pins: 12 M
part L pins: 13 M
part M pins: 14 M
part N pins: 15 M
part O pins: 16 M
part P pins: 17 M
part Q pins: 18 M
part R pins: 19 M
part S pins: 20 M
part T pins: 21 M
part U pins: 22 M
part V pins: 23 M
part W pins: 24 M
part X pins: 25 M
part Y pins: 26 M
part Z pins: 27 M
part 27 pins: 28 M
part 28 pins: 29 M
part 29 pins: 30 M
part 30 pins: 31 M
part 31 pins: 32 M
part 32 pins: 33 M
part 33 pins: 34 M
part 34 pins: 35 M
part 35 pins: 36 M
part 36 pins: 37 M
part 37 pins: G1, G2
part 38 pins: 1 M

## M50H
designator X?, comment <b>SUB-D</b>
OC_FARNELL: unknown; OC_NEWARK: unknown
footprint M50H
pins: 1, 2, 3, 4, 5, 6, 7, 8, 9, 10, 11, 12, 13, 14, 15, 16, 17, 18, 19, 20, 21, 22, 23, 24, 25, 26, 27, 28, 29, 30, 31, 32, 33, 34, 35, 36, 37, 38, 39, 40, 41, 42, 43, 44, 45, 46, 47, 48, 49, 50

## M50HP
designator X?, comment <b>SUB-D</b>
OC_FARNELL: unknown; OC_NEWARK: unknown
footprint M50HP
pins: 1, 2, 3, 4, 5, 6, 7, 8, 9, 10, 11, 12, 13, 14, 15, 16, 17, 18, 19, 20, 21, 22, 23, 24, 25, 26, 27, 28, 29, 30, 31, 32, 33, 34, 35, 36, 37, 38, 39, 40, 41, 42, 43, 44, 45, 46, 47, 48, 49, 50, G1, G2

## M50V
designator X?, comment <b>SUB-D</b>
OC_FARNELL: unknown; OC_NEWARK: unknown
footprint M50V
pins: 1, 2, 3, 4, 5, 6, 7, 8, 9, 10, 11, 12, 13, 14, 15, 16, 17, 18, 19, 20, 21, 22, 23, 24, 25, 26, 27, 28, 29, 30, 31, 32, 33, 34, 35, 36, 37, 38, 39, 40, 41, 42, 43, 44, 45, 46, 47, 48, 49, 50

## M50VB
designator X?, comment <b>SUB-D</b>
OC_FARNELL: unknown; OC_NEWARK: unknown
footprint M50VB
pins: 1, 2, 3, 4, 5, 6, 7, 8, 9, 10, 11, 12, 13, 14, 15, 16, 17, 18, 19, 20, 21, 22, 23, 24, 25, 26, 27, 28, 29, 30, 31, 32, 33, 34, 35, 36, 37, 38, 39, 40, 41, 42, 43, 44, 45, 46, 47, 48, 49, 50

## M50VP
designator X?, comment <b>SUB-D</b>
OC_FARNELL: unknown; OC_NEWARK: unknown
footprint M50VP
pins: 1, 2, 3, 4, 5, 6, 7, 8, 9, 10, 11, 12, 13, 14, 15, 16, 17, 18, 19, 20, 21, 22, 23, 24, 25, 26, 27, 28, 29, 30, 31, 32, 33, 34, 35, 36, 37, 38, 39, 40, 41, 42, 43, 44, 45, 46, 47, 48, 49, 50, G1, G2